# EAGLE library part SHIELDCONNECTOR (library backplane_to_shield_connector)
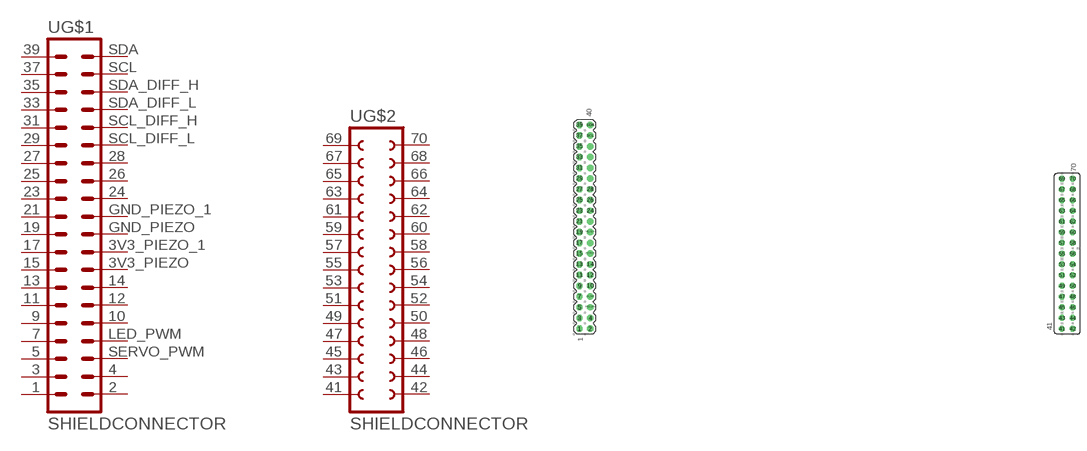
[diagram p0: symbol with the pads of 20X2PIN; footprint 20X2PIN]

Designator prefix -; gates G$2=15X2PIN_SHEILD_TO_BACKPLANE G$1=20X2PIN_SHEILD_TO_BACKPLANE

## SHIELDCONNECTOR  [20X2PIN]
1  G$1:1  pas
2  G$1:2  pas
3  G$1:3  pas
3V3_PIEZO  G$1:3V3_PIEZO  pas
3V3_PIEZO_1  G$1:3V3_PIEZO_1  pas
4  G$1:4  pas
5  G$1:5  pas
7  G$1:7  pas
9  G$1:9  pas
10  G$1:10  pas
11  G$1:11  pas
12  G$1:12  pas
13  G$1:13  pas
14  G$1:14  pas
15  G$1:15  pas
17  G$1:17  pas
19  G$1:19  pas
21  G$1:21  pas
23  G$1:23  pas
24  G$1:24  pas
25  G$1:25  pas
26  G$1:26  pas
27  G$1:27  pas
28  G$1:28  pas
29  G$1:29  pas
31  G$1:31  pas
33  G$1:33  pas
35  G$1:35  pas
37  G$1:37  pas
39  G$1:39  pas
41  G$2:1  pas
42  G$2:2  pas
43  G$2:3  pas
44  G$2:4  pas
45  G$2:5  pas
46  G$2:6  pas
47  G$2:7  pas
48  G$2:8  pas
49  G$2:9  pas
50  G$2:10  pas
51  G$2:11  pas
52  G$2:12  pas
53  G$2:13  pas
54  G$2:14  pas
55  G$2:15  pas
56  G$2:16  pas
57  G$2:17  pas
58  G$2:18  pas
59  G$2:19  pas
60  G$2:20  pas
61  G$2:21  pas
62  G$2:22  pas
63  G$2:23  pas
64  G$2:24  pas
65  G$2:25  pas
66  G$2:26  pas
67  G$2:27  pas
68  G$2:28  pas
69  G$2:12V  pas
70  G$2:30  pas
GND_PIEZO  G$1:GND_PIEZO  pas
GND_PIEZO_1  G$1:GND_PIEZO_1  pas
LED_PWM  G$1:LED_PWM  pas
SCL  G$1:SCL  pas
SCL_DIFF_H  G$1:SCL_DIFF_H  pas
SCL_DIFF_L  G$1:SCL_DIFF_L  pas
SDA  G$1:SDA  pas
SDA_DIFF_H  G$1:SDA_DIFF_H  pas
SDA_DIFF_L  G$1:SDA_DIFF_L  pas
SERVO_PWM  G$1:SERVO_PWM  pas

## Footprint 20X2PIN (pad centres in mm)
PIN HEADER
drill 1.016 octagon: 1 -55.88,-26.67; 2 -53.34,-26.67; 3 -55.88,-24.13; 3V3_PIEZO -53.34,-8.89; 3V3_PIEZO_1 -53.34,-6.35; 4 -53.34,-24.13; 5 -55.88,-21.59; 7 -55.88,-19.05; 9 -55.88,-16.51; 10 -53.34,-16.51; 11 -55.88,-13.97; 12 -53.34,-13.97; 13 -55.88,-11.43; 14 -53.34,-11.43; 15 -55.88,-8.89; 17 -55.88,-6.35; 19 -55.88,-3.81; 21 -55.88,-1.27; 23 -55.88,1.27; 24 -53.34,1.27; 25 -55.88,3.81; 26 -53.34,3.81; 27 -55.88,6.35; 28 -53.34,6.35; 29 -55.88,8.89; 31 -55.88,11.43; 33 -55.88,13.97; 35 -55.88,16.51; 37 -55.88,19.05; 39 -55.88,21.59; GND_PIEZO -53.34,-3.81; GND_PIEZO_1 -53.34,-1.27; LED_PWM -53.34,-19.05; SCL -53.34,19.05; SCL_DIFF_H -53.34,11.43; SCL_DIFF_L -53.34,8.89; SDA -53.34,21.59; SDA_DIFF_H -53.34,16.51; SDA_DIFF_L -53.34,13.97; SERVO_PWM -53.34,-21.59
drill 0.914: 41 58.42,-26.67
drill 0.914 octagon: 42 60.96,-26.67; 43 58.42,-24.13; 44 60.96,-24.13; 45 58.42,-21.59; 46 60.96,-21.59; 47 58.42,-19.05; 48 60.96,-19.05; 49 58.42,-16.51; 50 60.96,-16.51; 51 58.42,-13.97; 52 60.96,-13.97; 53 58.42,-11.43; 54 60.96,-11.43; 55 58.42,-8.89; 56 60.96,-8.89; 57 58.42,-6.35; 58 60.96,-6.35; 59 58.42,-3.81; 60 60.96,-3.81; 61 58.42,-1.27; 62 60.96,-1.27; 63 58.42,1.27; 64 60.96,1.27; 65 58.42,3.81; 66 60.96,3.81; 67 58.42,6.35; 68 60.96,6.35; 69 58.42,8.89; 70 60.96,8.89